# Altium integrated library TI Power Management Supervisor and Reset IC.IntLib: 819 symbols (part 19 of 30)
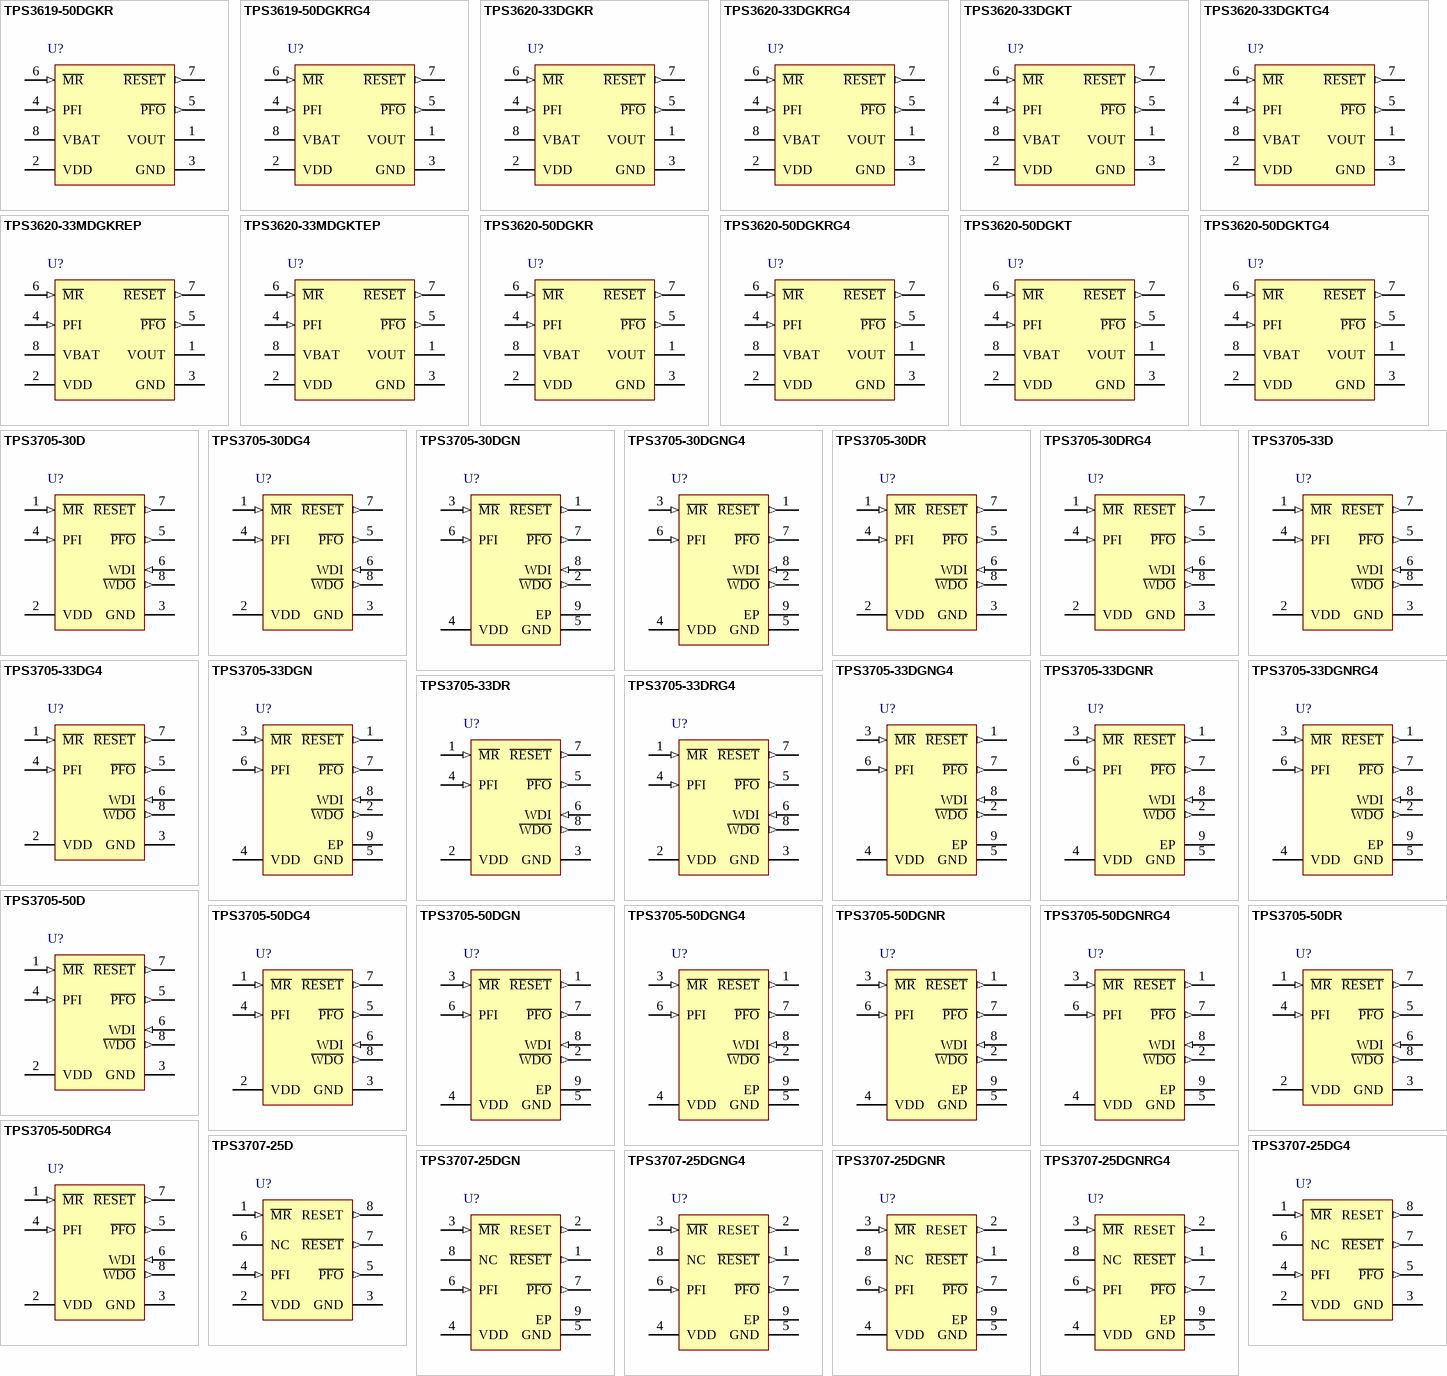
[diagram p39: symbols TPS3619-50DGKR to TPS3707-25DGNRG4]

## TPS3620-33DGKRG4
designator U?
3.3 V Battery-Backup Supervisor for RAM Retention, 1 Supply Monitored, -40 to 85 degC, 8-pin VSSOP (DGK), Green (RoHS & no Sb/Br); Manufacturer: Texas Instruments; PartNumber: TPS3620-33DGKRG4; # of supplies monitored: 1; Iq(Typ)(uA): 15; Output Driver Type / Reset Output: Active-low, Push-pull; Rating: Catalog; Reset Threshold Accuracy(%): 2; SubFamily: Supervisor and Reset IC; Threshold Voltage 1 (typ)(Typ)(V): 2.93; Threshold Voltage 2 (typ)(Typ)(V): Adjustable; Time Delay(ms): 100; VCC(Max)(V): 5.5; VCC(Min)(V): 1.65; DatasheetVersion: SLVS387H; PackageVersion: revE, May-2006; PackageReference: DGK8; PackageDescription: 8-Pin Thin Small Outline Package 3 x 3 mm Body ,0.65 mm Pitch; Supplier 1: Digi-Key; Supplier Part Number 1: TPS3620-33DGKRG4-ND; Supplier 2: Newark; Supplier Part Number 2: 58K6921; Supplier 3: Mouser; Supplier Part Number 3: 595-TPS3620-33DGKRG4; Mounting Technology: Surface Mount; Code_JEDEC: MO-187-AA; ComponentLink1Description: Datasheet; ComponentLink1URL: http://www.ti.com/general/docs/lit/getliterature.tsp?genericPartNumber=TPS3620-33&fileType=pdf
footprint DGK8_N (TSOP, 8-Leads, Body 3x3mm, Pitch 0.65mm, IPC Medium Density)
footprint DGK8_L (TSOP, 8-Leads, Body 3x3mm, Pitch 0.65mm, IPC High Density)
footprint DGK8_M (TSOP, 8-Leads, Body 3x3mm, Pitch 0.65mm, IPC Low Density)
pins: 1 VOUT (power) "Supply output", 2 VDD (power) "Input supply voltage", 3 GND (power) "Ground", 4 PFI (in) "Power-fail comparator input", 5 ~{PFO} (out) "Power-fail comparator output", 6 ~{MR} (in) "Manual reset input", 7 ~{RESET} (out) "Active-low reset output", 8 VBAT (power) "Backup-battery input"

## TPS3620-33DGKT
designator U?
3.3 V Battery-Backup Supervisor for RAM Retention, 1 Supply Monitored, -40 to 85 degC, 8-pin VSSOP (DGK), Green (RoHS & no Sb/Br); Manufacturer: Texas Instruments; PartNumber: TPS3620-33DGKT; # of supplies monitored: 1; Iq(Typ)(uA): 15; Output Driver Type / Reset Output: Active-low, Push-pull; Rating: Catalog; Reset Threshold Accuracy(%): 2; SubFamily: Supervisor and Reset IC; Threshold Voltage 1 (typ)(Typ)(V): 2.93; Threshold Voltage 2 (typ)(Typ)(V): Adjustable; Time Delay(ms): 100; VCC(Max)(V): 5.5; VCC(Min)(V): 1.65; DatasheetVersion: SLVS387H; PackageVersion: revE, May-2006; PackageReference: DGK8; PackageDescription: 8-Pin Thin Small Outline Package 3 x 3 mm Body ,0.65 mm Pitch; Supplier 1: Digi-Key; Supplier Part Number 1: 296-26939-2-ND; Supplier 2: Digi-Key; Supplier Part Number 2: 296-26939-1-ND; Supplier 3: Digi-Key; Supplier Part Number 3: 296-26939-6-ND; Supplier 4: Newark; Supplier Part Number 4: 65J6891; Supplier 5: Mouser; Supplier Part Number 5: 595-TPS3620-33DGKT; Mounting Technology: Surface Mount; Code_JEDEC: MO-187-AA; ComponentLink1Description: Datasheet; ComponentLink1URL: http://www.ti.com/general/docs/lit/getliterature.tsp?genericPartNumber=TPS3620-33&fileType=pdf
footprint DGK8_N (TSOP, 8-Leads, Body 3x3mm, Pitch 0.65mm, IPC Medium Density)
footprint DGK8_L (TSOP, 8-Leads, Body 3x3mm, Pitch 0.65mm, IPC High Density)
footprint DGK8_M (TSOP, 8-Leads, Body 3x3mm, Pitch 0.65mm, IPC Low Density)
pins: 1 VOUT (power) "Supply output", 2 VDD (power) "Input supply voltage", 3 GND (power) "Ground", 4 PFI (in) "Power-fail comparator input", 5 ~{PFO} (out) "Power-fail comparator output", 6 ~{MR} (in) "Manual reset input", 7 ~{RESET} (out) "Active-low reset output", 8 VBAT (power) "Backup-battery input"

## TPS3620-33DGKTG4
designator U?
3.3 V Battery-Backup Supervisor for RAM Retention, 1 Supply Monitored, -40 to 85 degC, 8-pin VSSOP (DGK), Green (RoHS & no Sb/Br); Manufacturer: Texas Instruments; PartNumber: TPS3620-33DGKTG4; # of supplies monitored: 1; Iq(Typ)(uA): 15; Output Driver Type / Reset Output: Active-low, Push-pull; Rating: Catalog; Reset Threshold Accuracy(%): 2; SubFamily: Supervisor and Reset IC; Threshold Voltage 1 (typ)(Typ)(V): 2.93; Threshold Voltage 2 (typ)(Typ)(V): Adjustable; Time Delay(ms): 100; VCC(Max)(V): 5.5; VCC(Min)(V): 1.65; DatasheetVersion: SLVS387H; PackageVersion: revE, May-2006; PackageReference: DGK8; PackageDescription: 8-Pin Thin Small Outline Package 3 x 3 mm Body ,0.65 mm Pitch; Supplier 1: Digi-Key; Supplier Part Number 1: TPS3620-33DGKTG4-ND; Supplier 2: Newark; Supplier Part Number 2: 54K1640; Supplier 3: Mouser; Supplier Part Number 3: 595-TPS3620-33DGKTG4; Mounting Technology: Surface Mount; Code_JEDEC: MO-187-AA; ComponentLink1Description: Datasheet; ComponentLink1URL: http://www.ti.com/general/docs/lit/getliterature.tsp?genericPartNumber=TPS3620-33&fileType=pdf
footprint DGK8_N (TSOP, 8-Leads, Body 3x3mm, Pitch 0.65mm, IPC Medium Density)
footprint DGK8_L (TSOP, 8-Leads, Body 3x3mm, Pitch 0.65mm, IPC High Density)
footprint DGK8_M (TSOP, 8-Leads, Body 3x3mm, Pitch 0.65mm, IPC Low Density)
pins: 1 VOUT (power) "Supply output", 2 VDD (power) "Input supply voltage", 3 GND (power) "Ground", 4 PFI (in) "Power-fail comparator input", 5 ~{PFO} (out) "Power-fail comparator output", 6 ~{MR} (in) "Manual reset input", 7 ~{RESET} (out) "Active-low reset output", 8 VBAT (power) "Backup-battery input"

## TPS3620-33MDGKREP
designator U?
Enhanced Product Backup-Battery Supervisor for Ram Retention, 1 Supply Monitored, -55 to 125 degC, 8-pin MSOP (DGK), Green (RoHS & no Sb/Br); Manufacturer: Texas Instruments; PartNumber: TPS3620-33MDGKREP; # of supplies monitored: 1; Iq(Typ)(uA): 15; Output Driver Type / Reset Output: Active-low, Push-pull; Rating: HiRel Enhanced Product; Reset Threshold Accuracy(%): 2; SubFamily: Supervisor and Reset IC; Threshold Voltage 1 (typ)(Typ)(V): 2.93; Threshold Voltage 2 (typ)(Typ)(V): Adjustable; Time Delay(ms): 100; VCC(Max)(V): 5.5; VCC(Min)(V): 1.65; DatasheetVersion: SGLS350C; PackageVersion: revE, May-2006; PackageReference: DGK8; PackageDescription: 8-Pin Thin Small Outline Package 3 x 3 mm Body ,0.65 mm Pitch; Supplier 1: Digi-Key; Supplier Part Number 1: 296-22437-2-ND; Supplier 2: Digi-Key; Supplier Part Number 2: 296-22437-1-ND; Supplier 3: Digi-Key; Supplier Part Number 3: 296-22437-6-ND; Supplier 4: Newark; Supplier Part Number 4: 46M3176; Supplier 5: Mouser; Supplier Part Number 5: 595-PS3620-33MDGKREP; Mounting Technology: Surface Mount; Code_JEDEC: MO-187-AA; ComponentLink1Description: Datasheet; ComponentLink1URL: http://www.ti.com/general/docs/lit/getliterature.tsp?genericPartNumber=TPS3620-33-EP&fileType=pdf
footprint DGK8_N (TSOP, 8-Leads, Body 3x3mm, Pitch 0.65mm, IPC Medium Density)
footprint DGK8_L (TSOP, 8-Leads, Body 3x3mm, Pitch 0.65mm, IPC High Density)
footprint DGK8_M (TSOP, 8-Leads, Body 3x3mm, Pitch 0.65mm, IPC Low Density)
pins: 1 VOUT (power) "Supply output voltage", 2 VDD (power) "Supply input voltage", 3 GND (power) "Ground", 4 PFI (in) "Power-fail comparator input", 5 ~{PFO} (out) "Power-fail comparator output", 6 ~{MR} (in) "Manual reset", 7 ~{RESET} (out) "Active-low reset", 8 VBAT (power) "Backup battery"

## TPS3620-33MDGKTEP
designator U?
Enhanced Product Backup-Battery Supervisor for Ram Retention, 1 Supply Monitored, -55 to 125 degC, 8-pin MSOP (DGK), Green (RoHS & no Sb/Br); Manufacturer: Texas Instruments; PartNumber: TPS3620-33MDGKTEP; # of supplies monitored: 1; Iq(Typ)(uA): 15; Output Driver Type / Reset Output: Active-low, Push-pull; Rating: HiRel Enhanced Product; Reset Threshold Accuracy(%): 2; SubFamily: Supervisor and Reset IC; Threshold Voltage 1 (typ)(Typ)(V): 2.93; Threshold Voltage 2 (typ)(Typ)(V): Adjustable; Time Delay(ms): 100; VCC(Max)(V): 5.5; VCC(Min)(V): 1.65; DatasheetVersion: SGLS350C; PackageVersion: revE, May-2006; PackageReference: DGK8; PackageDescription: 8-Pin Thin Small Outline Package 3 x 3 mm Body ,0.65 mm Pitch; Supplier 1: Digi-Key; Supplier Part Number 1: TPS3620-33MDGKTEP-ND; Supplier 2: Mouser; Supplier Part Number 2: 595-TPS362033MDGKTEP; Mounting Technology: Surface Mount; Code_JEDEC: MO-187-AA; ComponentLink1Description: Datasheet; ComponentLink1URL: http://www.ti.com/general/docs/lit/getliterature.tsp?genericPartNumber=TPS3620-33-EP&fileType=pdf
footprint DGK8_N (TSOP, 8-Leads, Body 3x3mm, Pitch 0.65mm, IPC Medium Density)
footprint DGK8_L (TSOP, 8-Leads, Body 3x3mm, Pitch 0.65mm, IPC High Density)
footprint DGK8_M (TSOP, 8-Leads, Body 3x3mm, Pitch 0.65mm, IPC Low Density)
pins: 1 VOUT (power) "Supply output voltage", 2 VDD (power) "Supply input voltage", 3 GND (power) "Ground", 4 PFI (in) "Power-fail comparator input", 5 ~{PFO} (out) "Power-fail comparator output", 6 ~{MR} (in) "Manual reset", 7 ~{RESET} (out) "Active-low reset", 8 VBAT (power) "Backup battery"

## TPS3620-50DGKR
designator U?
5 V Battery-Backup Supervisor for RAM Retention, 1 Supply Monitored, -40 to 85 degC, 8-pin VSSOP (DGK), Green (RoHS & no Sb/Br); Manufacturer: Texas Instruments; PartNumber: TPS3620-50DGKR; # of supplies monitored: 1; Iq(Typ)(uA): 15; Output Driver Type / Reset Output: Active-low, Push-pull; Rating: Catalog; Reset Threshold Accuracy(%): 2; SubFamily: Supervisor and Reset IC; Threshold Voltage 1 (typ)(Typ)(V): 4.55; Threshold Voltage 2 (typ)(Typ)(V): Adjustable; Time Delay(ms): 100; VCC(Max)(V): 5.5; VCC(Min)(V): 1.65; DatasheetVersion: SLVS387H; PackageVersion: revE, May-2006; PackageReference: DGK8; PackageDescription: 8-Pin Thin Small Outline Package 3 x 3 mm Body ,0.65 mm Pitch; Supplier 1: Digi-Key; Supplier Part Number 1: 296-17575-2-ND; Supplier 2: Digi-Key; Supplier Part Number 2: 296-17575-1-ND; Supplier 3: Digi-Key; Supplier Part Number 3: 296-17575-6-ND; Supplier 4: Newark; Supplier Part Number 4: 71J8103; Supplier 5: Mouser; Supplier Part Number 5: 595-TPS3620-50DGKR; Mounting Technology: Surface Mount; Code_JEDEC: MO-187-AA; ComponentLink1Description: Datasheet; ComponentLink1URL: http://www.ti.com/general/docs/lit/getliterature.tsp?genericPartNumber=TPS3620-50&fileType=pdf
footprint DGK8_N (TSOP, 8-Leads, Body 3x3mm, Pitch 0.65mm, IPC Medium Density)
footprint DGK8_L (TSOP, 8-Leads, Body 3x3mm, Pitch 0.65mm, IPC High Density)
footprint DGK8_M (TSOP, 8-Leads, Body 3x3mm, Pitch 0.65mm, IPC Low Density)
pins: 1 VOUT (power) "Supply output", 2 VDD (power) "Input supply voltage", 3 GND (power) "Ground", 4 PFI (in) "Power-fail comparator input", 5 ~{PFO} (out) "Power-fail comparator output", 6 ~{MR} (in) "Manual reset input", 7 ~{RESET} (out) "Active-low reset output", 8 VBAT (power) "Backup-battery input"

## TPS3620-50DGKRG4
designator U?
5 V Battery-Backup Supervisor for RAM Retention, 1 Supply Monitored, -40 to 85 degC, 8-pin VSSOP (DGK), Green (RoHS & no Sb/Br); Manufacturer: Texas Instruments; PartNumber: TPS3620-50DGKRG4; # of supplies monitored: 1; Iq(Typ)(uA): 15; Output Driver Type / Reset Output: Active-low, Push-pull; Rating: Catalog; Reset Threshold Accuracy(%): 2; SubFamily: Supervisor and Reset IC; Threshold Voltage 1 (typ)(Typ)(V): 4.55; Threshold Voltage 2 (typ)(Typ)(V): Adjustable; Time Delay(ms): 100; VCC(Max)(V): 5.5; VCC(Min)(V): 1.65; DatasheetVersion: SLVS387H; PackageVersion: revE, May-2006; PackageReference: DGK8; PackageDescription: 8-Pin Thin Small Outline Package 3 x 3 mm Body ,0.65 mm Pitch; Supplier 1: Digi-Key; Supplier Part Number 1: TPS3620-50DGKRG4-ND; Supplier 2: Newark; Supplier Part Number 2: 54K1641; Supplier 3: Mouser; Supplier Part Number 3: 595-TPS3620-50DGKRG4; Mounting Technology: Surface Mount; Code_JEDEC: MO-187-AA; ComponentLink1Description: Datasheet; ComponentLink1URL: http://www.ti.com/general/docs/lit/getliterature.tsp?genericPartNumber=TPS3620-50&fileType=pdf
footprint DGK8_N (TSOP, 8-Leads, Body 3x3mm, Pitch 0.65mm, IPC Medium Density)
footprint DGK8_L (TSOP, 8-Leads, Body 3x3mm, Pitch 0.65mm, IPC High Density)
footprint DGK8_M (TSOP, 8-Leads, Body 3x3mm, Pitch 0.65mm, IPC Low Density)
pins: 1 VOUT (power) "Supply output", 2 VDD (power) "Input supply voltage", 3 GND (power) "Ground", 4 PFI (in) "Power-fail comparator input", 5 ~{PFO} (out) "Power-fail comparator output", 6 ~{MR} (in) "Manual reset input", 7 ~{RESET} (out) "Active-low reset output", 8 VBAT (power) "Backup-battery input"

## TPS3620-50DGKT
designator U?
5 V Battery-Backup Supervisor for RAM Retention, 1 Supply Monitored, -40 to 85 degC, 8-pin VSSOP (DGK), Green (RoHS & no Sb/Br); Manufacturer: Texas Instruments; PartNumber: TPS3620-50DGKT; # of supplies monitored: 1; Iq(Typ)(uA): 15; Output Driver Type / Reset Output: Active-low, Push-pull; Rating: Catalog; Reset Threshold Accuracy(%): 2; SubFamily: Supervisor and Reset IC; Threshold Voltage 1 (typ)(Typ)(V): 4.55; Threshold Voltage 2 (typ)(Typ)(V): Adjustable; Time Delay(ms): 100; VCC(Max)(V): 5.5; VCC(Min)(V): 1.65; DatasheetVersion: SLVS387H; PackageVersion: revE, May-2006; PackageReference: DGK8; PackageDescription: 8-Pin Thin Small Outline Package 3 x 3 mm Body ,0.65 mm Pitch; Supplier 1: Digi-Key; Supplier Part Number 1: TPS3620-50DGKT-ND; Supplier 2: Newark; Supplier Part Number 2: 71J8104; Supplier 3: Mouser; Supplier Part Number 3: 595-TPS3620-50DGKT; Mounting Technology: Surface Mount; Code_JEDEC: MO-187-AA; ComponentLink1Description: Datasheet; ComponentLink1URL: http://www.ti.com/general/docs/lit/getliterature.tsp?genericPartNumber=TPS3620-50&fileType=pdf
footprint DGK8_N (TSOP, 8-Leads, Body 3x3mm, Pitch 0.65mm, IPC Medium Density)
footprint DGK8_L (TSOP, 8-Leads, Body 3x3mm, Pitch 0.65mm, IPC High Density)
footprint DGK8_M (TSOP, 8-Leads, Body 3x3mm, Pitch 0.65mm, IPC Low Density)
pins: 1 VOUT (power) "Supply output", 2 VDD (power) "Input supply voltage", 3 GND (power) "Ground", 4 PFI (in) "Power-fail comparator input", 5 ~{PFO} (out) "Power-fail comparator output", 6 ~{MR} (in) "Manual reset input", 7 ~{RESET} (out) "Active-low reset output", 8 VBAT (power) "Backup-battery input"

## TPS3620-50DGKTG4
designator U?
5 V Battery-Backup Supervisor for RAM Retention, 1 Supply Monitored, -40 to 85 degC, 8-pin VSSOP (DGK), Green (RoHS & no Sb/Br); Manufacturer: Texas Instruments; PartNumber: TPS3620-50DGKTG4; # of supplies monitored: 1; Iq(Typ)(uA): 15; Output Driver Type / Reset Output: Active-low, Push-pull; Rating: Catalog; Reset Threshold Accuracy(%): 2; SubFamily: Supervisor and Reset IC; Threshold Voltage 1 (typ)(Typ)(V): 4.55; Threshold Voltage 2 (typ)(Typ)(V): Adjustable; Time Delay(ms): 100; VCC(Max)(V): 5.5; VCC(Min)(V): 1.65; DatasheetVersion: SLVS387H; PackageVersion: revE, May-2006; PackageReference: DGK8; PackageDescription: 8-Pin Thin Small Outline Package 3 x 3 mm Body ,0.65 mm Pitch; Supplier 1: Digi-Key; Supplier Part Number 1: TPS3620-50DGKTG4-ND; Supplier 2: Newark; Supplier Part Number 2: 58K6922; Supplier 3: Mouser; Supplier Part Number 3: 595-TPS3620-50DGKTG4; Mounting Technology: Surface Mount; Code_JEDEC: MO-187-AA; ComponentLink1Description: Datasheet; ComponentLink1URL: http://www.ti.com/general/docs/lit/getliterature.tsp?genericPartNumber=TPS3620-50&fileType=pdf
footprint DGK8_N (TSOP, 8-Leads, Body 3x3mm, Pitch 0.65mm, IPC Medium Density)
footprint DGK8_L (TSOP, 8-Leads, Body 3x3mm, Pitch 0.65mm, IPC High Density)
footprint DGK8_M (TSOP, 8-Leads, Body 3x3mm, Pitch 0.65mm, IPC Low Density)
pins: 1 VOUT (power) "Supply output", 2 VDD (power) "Input supply voltage", 3 GND (power) "Ground", 4 PFI (in) "Power-fail comparator input", 5 ~{PFO} (out) "Power-fail comparator output", 6 ~{MR} (in) "Manual reset input", 7 ~{RESET} (out) "Active-low reset output", 8 VBAT (power) "Backup-battery input"

## TPS3705-30D
designator U?
Processor Supervisory Circuit with Power-Fail, 2 Supply Monitored, -40 to 85 degC, 8-pin SOIC (D), Green (RoHS & no Sb/Br); Manufacturer: Texas Instruments; PartNumber: TPS3705-30D; # of supplies monitored: 2; Iq(Typ)(uA): 30; Output Driver Type / Reset Output: Active-low, Push-pull; Rating: Catalog; Reset Threshold Accuracy(%): 2.1; SubFamily: Supervisor and Reset IC; Threshold Voltage 1 (typ)(Typ)(V): 2.63; Threshold Voltage 2 (typ)(Typ)(V): Adjustable; Time Delay(ms): 200; VCC(Max)(V): 3; Watchdog Timer WDI(sec): 1.6; DatasheetVersion: SLVS184C; PackageVersion: revM, Jun-2011; PackageReference: D8; PackageDescription: 8-Pin Plastic Small Outline Integrated Circuit, 4.9 x 3.9 mm, Pitch 1.27 mm Pitch; Supplier 1: Digi-Key; Supplier Part Number 1: 296-2622-5-ND; Supplier 2: Newark; Supplier Part Number 2: 35K1319; Supplier 3: Mouser; Supplier Part Number 3: 595-TPS3705-30D; VCC(Min)(V): 2; Mounting Technology: Surface Mount; Code_JEDEC: MS-012AA; ComponentLink1Description: Datasheet; ComponentLink1URL: http://www.ti.com/general/docs/lit/getliterature.tsp?genericPartNumber=TPS3705-30&fileType=pdf
footprint D8_N (SOIC, 8-Leads, Body 4.9x3.9mm, Pitch 1.27mm, IPC Medium Density)
footprint D8_L (SOIC, 8-Leads, Body 4.9x3.9mm, Pitch 1.27mm, IPC High Density)
footprint D8_M (SOIC, 8-Leads, Body 4.9x3.9mm, Pitch 1.27mm, IPC Low Density)
pins: 1 ~{MR} (in) "Manual reset", 2 VDD (power) "Supply voltage", 3 GND (power) "Ground", 4 PFI (in) "Power-fail comparator input", 5 ~{PFO} (out) "Power-fail comparator output", 6 WDI (in) "Watchdog timer input", 7 ~{RESET} (out) "Active-low reset output", 8 ~{WDO} (out) "Watchdog timer output"

## TPS3705-30DG4
designator U?
Processor Supervisory Circuit with Power-Fail, 2 Supply Monitored, -40 to 85 degC, 8-pin SOIC (D), Green (RoHS & no Sb/Br); Manufacturer: Texas Instruments; PartNumber: TPS3705-30DG4; # of supplies monitored: 2; Iq(Typ)(uA): 30; Output Driver Type / Reset Output: Active-low, Push-pull; Rating: Catalog; Reset Threshold Accuracy(%): 2.1; SubFamily: Supervisor and Reset IC; Threshold Voltage 1 (typ)(Typ)(V): 2.63; Threshold Voltage 2 (typ)(Typ)(V): Adjustable; Time Delay(ms): 200; VCC(Max)(V): 3; Watchdog Timer WDI(sec): 1.6; DatasheetVersion: SLVS184C; PackageVersion: revM, Jun-2011; PackageReference: D8; PackageDescription: 8-Pin Plastic Small Outline Integrated Circuit, 4.9 x 3.9 mm, Pitch 1.27 mm Pitch; Supplier 1: Digi-Key; Supplier Part Number 1: TPS3705-30DG4-ND; Supplier 2: Newark; Supplier Part Number 2: 41M5864; Supplier 3: Mouser; Supplier Part Number 3: 595-TPS3705-30DG4; VCC(Min)(V): 2; Mounting Technology: Surface Mount; Code_JEDEC: MS-012AA; ComponentLink1Description: Datasheet; ComponentLink1URL: http://www.ti.com/general/docs/lit/getliterature.tsp?genericPartNumber=TPS3705-30&fileType=pdf
footprint D8_N (SOIC, 8-Leads, Body 4.9x3.9mm, Pitch 1.27mm, IPC Medium Density)
footprint D8_L (SOIC, 8-Leads, Body 4.9x3.9mm, Pitch 1.27mm, IPC High Density)
footprint D8_M (SOIC, 8-Leads, Body 4.9x3.9mm, Pitch 1.27mm, IPC Low Density)
pins: 1 ~{MR} (in) "Manual reset", 2 VDD (power) "Supply voltage", 3 GND (power) "Ground", 4 PFI (in) "Power-fail comparator input", 5 ~{PFO} (out) "Power-fail comparator output", 6 WDI (in) "Watchdog timer input", 7 ~{RESET} (out) "Active-low reset output", 8 ~{WDO} (out) "Watchdog timer output"

## TPS3705-30DGN
designator U?
Processor Supervisory Circuit with Power-Fail, 2 Supply Monitored, -40 to 85 degC, 8-pin MSOP-PowerPAD (DGN), Green (RoHS & no Sb/Br); Manufacturer: Texas Instruments; PartNumber: TPS3705-30DGN; # of supplies monitored: 2; Iq(Typ)(uA): 30; Output Driver Type / Reset Output: Active-low, Push-pull; Rating: Catalog; Reset Threshold Accuracy(%): 2.1; SubFamily: Supervisor and Reset IC; Threshold Voltage 1 (typ)(Typ)(V): 2.63; Threshold Voltage 2 (typ)(Typ)(V): Adjustable; Time Delay(ms): 200; VCC(Max)(V): 3; Watchdog Timer WDI(sec): 1.6; DatasheetVersion: SLVS184C; PackageVersion: revF, May-2011; PackageReference: DGN8-1760X1425TP; PackageDescription: 8-Pin PowerPAD Plastic Small Outline Package 3 x 3 mm Body ,0.65 mm Pitch, Exposed Pad; Supplier 1: Digi-Key; Supplier Part Number 1: 296-3316-5-ND; Supplier 2: Newark; Supplier Part Number 2: 77C0363; Supplier 3: Mouser; Supplier Part Number 3: 595-TPS3705-30DGN; VCC(Min)(V): 2; Mounting Technology: Surface Mount; Code_JEDEC: MO-187-AA-T; ComponentLink1Description: Datasheet; ComponentLink1URL: http://www.ti.com/general/docs/lit/getliterature.tsp?genericPartNumber=TPS3705-30&fileType=pdf
footprint DGN8-1760X1425TP_N (TSOP, 8-Leads, Body 3x3mm, Pitch 0.65mm, Thermal Pad 1.89x1.57mm, IPC Medium Density)
footprint DGN8-1760X1425TP_L (TSOP, 8-Leads, Body 3x3mm, Pitch 0.65mm, Thermal Pad 1.89x1.57mm, IPC High Density)
footprint DGN8-1760X1425TP_M (TSOP, 8-Leads, Body 3x3mm, Pitch 0.65mm, Thermal Pad 1.89x1.57mm, IPC Low Density)
pins: 1 ~{RESET} (out) "Active-low reset output", 2 ~{WDO} (out) "Watchdog timer output", 3 ~{MR} (in) "Manual reset", 4 VDD (power) "Supply voltage", 5 GND (power) "Ground", 6 PFI (in) "Power-fail comparator input", 7 ~{PFO} (out) "Power-fail comparator output", 8 WDI (in) "Watchdog timer input", 9 EP "Exposed Pad"

## TPS3705-30DGNG4
designator U?
Processor Supervisory Circuit with Power-Fail, 2 Supply Monitored, -40 to 85 degC, 8-pin MSOP-PowerPAD (DGN), Green (RoHS & no Sb/Br); Manufacturer: Texas Instruments; PartNumber: TPS3705-30DGNG4; # of supplies monitored: 2; Iq(Typ)(uA): 30; Output Driver Type / Reset Output: Active-low, Push-pull; Rating: Catalog; Reset Threshold Accuracy(%): 2.1; SubFamily: Supervisor and Reset IC; Threshold Voltage 1 (typ)(Typ)(V): 2.63; Threshold Voltage 2 (typ)(Typ)(V): Adjustable; Time Delay(ms): 200; VCC(Max)(V): 3; Watchdog Timer WDI(sec): 1.6; DatasheetVersion: SLVS184C; PackageVersion: revF, May-2011; PackageReference: DGN8-1760X1425TP; PackageDescription: 8-Pin PowerPAD Plastic Small Outline Package 3 x 3 mm Body ,0.65 mm Pitch, Exposed Pad; Supplier 1: Digi-Key; Supplier Part Number 1: TPS3705-30DGNG4-ND; Supplier 2: Newark; Supplier Part Number 2: 73K9595; Supplier 3: Mouser; Supplier Part Number 3: 595-TPS3705-30DGNG4; VCC(Min)(V): 2; Mounting Technology: Surface Mount; Code_JEDEC: MO-187-AA-T; ComponentLink1Description: Datasheet; ComponentLink1URL: http://www.ti.com/general/docs/lit/getliterature.tsp?genericPartNumber=TPS3705-30&fileType=pdf
footprint DGN8-1760X1425TP_N (TSOP, 8-Leads, Body 3x3mm, Pitch 0.65mm, Thermal Pad 1.89x1.57mm, IPC Medium Density)
footprint DGN8-1760X1425TP_L (TSOP, 8-Leads, Body 3x3mm, Pitch 0.65mm, Thermal Pad 1.89x1.57mm, IPC High Density)
footprint DGN8-1760X1425TP_M (TSOP, 8-Leads, Body 3x3mm, Pitch 0.65mm, Thermal Pad 1.89x1.57mm, IPC Low Density)
pins: 1 ~{RESET} (out) "Active-low reset output", 2 ~{WDO} (out) "Watchdog timer output", 3 ~{MR} (in) "Manual reset", 4 VDD (power) "Supply voltage", 5 GND (power) "Ground", 6 PFI (in) "Power-fail comparator input", 7 ~{PFO} (out) "Power-fail comparator output", 8 WDI (in) "Watchdog timer input", 9 EP "Exposed Pad"

## TPS3705-30DR
designator U?
Processor Supervisory Circuit with Power-Fail, 2 Supply Monitored, -40 to 85 degC, 8-pin SOIC (D), Green (RoHS & no Sb/Br); Manufacturer: Texas Instruments; PartNumber: TPS3705-30DR; # of supplies monitored: 2; Iq(Typ)(uA): 30; Output Driver Type / Reset Output: Active-low, Push-pull; Rating: Catalog; Reset Threshold Accuracy(%): 2.1; SubFamily: Supervisor and Reset IC; Threshold Voltage 1 (typ)(Typ)(V): 2.63; Threshold Voltage 2 (typ)(Typ)(V): Adjustable; Time Delay(ms): 200; VCC(Max)(V): 3; Watchdog Timer WDI(sec): 1.6; DatasheetVersion: SLVS184C; PackageVersion: revM, Jun-2011; PackageReference: D8; PackageDescription: 8-Pin Plastic Small Outline Integrated Circuit, 4.9 x 3.9 mm, Pitch 1.27 mm Pitch; Supplier 1: Digi-Key; Supplier Part Number 1: 296-29076-2-ND; Supplier 2: Digi-Key; Supplier Part Number 2: 296-29076-1-ND; Supplier 3: Digi-Key; Supplier Part Number 3: 296-29076-6-ND; Supplier 4: Newark; Supplier Part Number 4: 77C0364; Supplier 5: Mouser; Supplier Part Number 5: 595-TPS3705-30DR; VCC(Min)(V): 2; Mounting Technology: Surface Mount; Code_JEDEC: MS-012AA; ComponentLink1Description: Datasheet; ComponentLink1URL: http://www.ti.com/general/docs/lit/getliterature.tsp?genericPartNumber=TPS3705-30&fileType=pdf
footprint D8_N (SOIC, 8-Leads, Body 4.9x3.9mm, Pitch 1.27mm, IPC Medium Density)
footprint D8_L (SOIC, 8-Leads, Body 4.9x3.9mm, Pitch 1.27mm, IPC High Density)
footprint D8_M (SOIC, 8-Leads, Body 4.9x3.9mm, Pitch 1.27mm, IPC Low Density)
pins: 1 ~{MR} (in) "Manual reset", 2 VDD (power) "Supply voltage", 3 GND (power) "Ground", 4 PFI (in) "Power-fail comparator input", 5 ~{PFO} (out) "Power-fail comparator output", 6 WDI (in) "Watchdog timer input", 7 ~{RESET} (out) "Active-low reset output", 8 ~{WDO} (out) "Watchdog timer output"

## TPS3705-30DRG4
designator U?
Processor Supervisory Circuit with Power-Fail, 2 Supply Monitored, -40 to 85 degC, 8-pin SOIC (D), Green (RoHS & no Sb/Br); Manufacturer: Texas Instruments; PartNumber: TPS3705-30DRG4; # of supplies monitored: 2; Iq(Typ)(uA): 30; Output Driver Type / Reset Output: Active-low, Push-pull; Rating: Catalog; Reset Threshold Accuracy(%): 2.1; SubFamily: Supervisor and Reset IC; Threshold Voltage 1 (typ)(Typ)(V): 2.63; Threshold Voltage 2 (typ)(Typ)(V): Adjustable; Time Delay(ms): 200; VCC(Max)(V): 3; Watchdog Timer WDI(sec): 1.6; DatasheetVersion: SLVS184C; PackageVersion: revM, Jun-2011; PackageReference: D8; PackageDescription: 8-Pin Plastic Small Outline Integrated Circuit, 4.9 x 3.9 mm, Pitch 1.27 mm Pitch; Supplier 1: Digi-Key; Supplier Part Number 1: TPS3705-30DRG4-ND; Supplier 2: Newark; Supplier Part Number 2: 58K6923; Supplier 3: Mouser; Supplier Part Number 3: 595-TPS3705-30DRG4; VCC(Min)(V): 2; Mounting Technology: Surface Mount; Code_JEDEC: MS-012AA; ComponentLink1Description: Datasheet; ComponentLink1URL: http://www.ti.com/general/docs/lit/getliterature.tsp?genericPartNumber=TPS3705-30&fileType=pdf
footprint D8_N (SOIC, 8-Leads, Body 4.9x3.9mm, Pitch 1.27mm, IPC Medium Density)
footprint D8_L (SOIC, 8-Leads, Body 4.9x3.9mm, Pitch 1.27mm, IPC High Density)
footprint D8_M (SOIC, 8-Leads, Body 4.9x3.9mm, Pitch 1.27mm, IPC Low Density)
pins: 1 ~{MR} (in) "Manual reset", 2 VDD (power) "Supply voltage", 3 GND (power) "Ground", 4 PFI (in) "Power-fail comparator input", 5 ~{PFO} (out) "Power-fail comparator output", 6 WDI (in) "Watchdog timer input", 7 ~{RESET} (out) "Active-low reset output", 8 ~{WDO} (out) "Watchdog timer output"

## TPS3705-33D
designator U?
Processor Supervisory Circuit with Power-Fail, 2 Supply Monitored, -40 to 85 degC, 8-pin SOIC (D), Green (RoHS & no Sb/Br); Manufacturer: Texas Instruments; PartNumber: TPS3705-33D; # of supplies monitored: 2; Iq(Typ)(uA): 30; Output Driver Type / Reset Output: Active-low, Push-pull; Rating: Catalog; Reset Threshold Accuracy(%): 1.9; SubFamily: Supervisor and Reset IC; Threshold Voltage 1 (typ)(Typ)(V): 2.93; Threshold Voltage 2 (typ)(Typ)(V): Adjustable; Time Delay(ms): 200; VCC(Max)(V): 3.3; Watchdog Timer WDI(sec): 1.6; DatasheetVersion: SLVS184C; PackageVersion: revM, Jun-2011; PackageReference: D8; PackageDescription: 8-Pin Plastic Small Outline Integrated Circuit, 4.9 x 3.9 mm, Pitch 1.27 mm Pitch; Supplier 1: Digi-Key; Supplier Part Number 1: 296-2623-5-ND; Supplier 2: Farnell; Supplier Part Number 2: 4513046; Supplier 3: Newark; Supplier Part Number 3: 19C9040; Supplier 4: Mouser; Supplier Part Number 4: 595-TPS3705-33D; VCC(Min)(V): 2; Mounting Technology: Surface Mount; Code_JEDEC: MS-012AA; ComponentLink1Description: Datasheet; ComponentLink1URL: http://www.ti.com/general/docs/lit/getliterature.tsp?genericPartNumber=TPS3705-33&fileType=pdf
footprint D8_N (SOIC, 8-Leads, Body 4.9x3.9mm, Pitch 1.27mm, IPC Medium Density)
footprint D8_L (SOIC, 8-Leads, Body 4.9x3.9mm, Pitch 1.27mm, IPC High Density)
footprint D8_M (SOIC, 8-Leads, Body 4.9x3.9mm, Pitch 1.27mm, IPC Low Density)
pins: 1 ~{MR} (in) "Manual reset", 2 VDD (power) "Supply voltage", 3 GND (power) "Ground", 4 PFI (in) "Power-fail comparator input", 5 ~{PFO} (out) "Power-fail comparator output", 6 WDI (in) "Watchdog timer input", 7 ~{RESET} (out) "Active-low reset output", 8 ~{WDO} (out) "Watchdog timer output"

## TPS3705-33DG4
designator U?
Processor Supervisory Circuit with Power-Fail, 2 Supply Monitored, -40 to 85 degC, 8-pin SOIC (D), Green (RoHS & no Sb/Br); Manufacturer: Texas Instruments; PartNumber: TPS3705-33DG4; # of supplies monitored: 2; Iq(Typ)(uA): 30; Output Driver Type / Reset Output: Active-low, Push-pull; Rating: Catalog; Reset Threshold Accuracy(%): 1.9; SubFamily: Supervisor and Reset IC; Threshold Voltage 1 (typ)(Typ)(V): 2.93; Threshold Voltage 2 (typ)(Typ)(V): Adjustable; Time Delay(ms): 200; VCC(Max)(V): 3.3; Watchdog Timer WDI(sec): 1.6; DatasheetVersion: SLVS184C; PackageVersion: revM, Jun-2011; PackageReference: D8; PackageDescription: 8-Pin Plastic Small Outline Integrated Circuit, 4.9 x 3.9 mm, Pitch 1.27 mm Pitch; Supplier 1: Digi-Key; Supplier Part Number 1: TPS3705-33DG4-ND; Supplier 2: Newark; Supplier Part Number 2: 66K4521; Supplier 3: Mouser; Supplier Part Number 3: 595-TPS3705-33DG4; VCC(Min)(V): 2; Mounting Technology: Surface Mount; Code_JEDEC: MS-012AA; ComponentLink1Description: Datasheet; ComponentLink1URL: http://www.ti.com/general/docs/lit/getliterature.tsp?genericPartNumber=TPS3705-33&fileType=pdf
footprint D8_N (SOIC, 8-Leads, Body 4.9x3.9mm, Pitch 1.27mm, IPC Medium Density)
footprint D8_L (SOIC, 8-Leads, Body 4.9x3.9mm, Pitch 1.27mm, IPC High Density)
footprint D8_M (SOIC, 8-Leads, Body 4.9x3.9mm, Pitch 1.27mm, IPC Low Density)
pins: 1 ~{MR} (in) "Manual reset", 2 VDD (power) "Supply voltage", 3 GND (power) "Ground", 4 PFI (in) "Power-fail comparator input", 5 ~{PFO} (out) "Power-fail comparator output", 6 WDI (in) "Watchdog timer input", 7 ~{RESET} (out) "Active-low reset output", 8 ~{WDO} (out) "Watchdog timer output"

## TPS3705-33DGN
designator U?
Processor Supervisory Circuit with Power-Fail, 2 Supply Monitored, -40 to 85 degC, 8-pin MSOP-PowerPAD (DGN), Green (RoHS & no Sb/Br); Manufacturer: Texas Instruments; PartNumber: TPS3705-33DGN; # of supplies monitored: 2; Iq(Typ)(uA): 30; Output Driver Type / Reset Output: Active-low, Push-pull; Rating: Catalog; Reset Threshold Accuracy(%): 1.9; SubFamily: Supervisor and Reset IC; Threshold Voltage 1 (typ)(Typ)(V): 2.93; Threshold Voltage 2 (typ)(Typ)(V): Adjustable; Time Delay(ms): 200; VCC(Max)(V): 3.3; Watchdog Timer WDI(sec): 1.6; DatasheetVersion: SLVS184C; PackageVersion: revF, May-2011; PackageReference: DGN8-1760X1425TP; PackageDescription: 8-Pin PowerPAD Plastic Small Outline Package 3 x 3 mm Body ,0.65 mm Pitch, Exposed Pad; Supplier 1: Digi-Key; Supplier Part Number 1: 296-34604-5-ND; Supplier 2: Newark; Supplier Part Number 2: 77C0365; Supplier 3: Mouser; Supplier Part Number 3: 595-TPS3705-33DGN; VCC(Min)(V): 2; Mounting Technology: Surface Mount; Code_JEDEC: MO-187-AA-T; ComponentLink1Description: Datasheet; ComponentLink1URL: http://www.ti.com/general/docs/lit/getliterature.tsp?genericPartNumber=TPS3705-33&fileType=pdf
footprint DGN8-1760X1425TP_N (TSOP, 8-Leads, Body 3x3mm, Pitch 0.65mm, Thermal Pad 1.89x1.57mm, IPC Medium Density)
footprint DGN8-1760X1425TP_L (TSOP, 8-Leads, Body 3x3mm, Pitch 0.65mm, Thermal Pad 1.89x1.57mm, IPC High Density)
footprint DGN8-1760X1425TP_M (TSOP, 8-Leads, Body 3x3mm, Pitch 0.65mm, Thermal Pad 1.89x1.57mm, IPC Low Density)
pins: 1 ~{RESET} (out) "Active-low reset output", 2 ~{WDO} (out) "Watchdog timer output", 3 ~{MR} (in) "Manual reset", 4 VDD (power) "Supply voltage", 5 GND (power) "Ground", 6 PFI (in) "Power-fail comparator input", 7 ~{PFO} (out) "Power-fail comparator output", 8 WDI (in) "Watchdog timer input", 9 EP "the exposed thermal pad"

## TPS3705-33DGNG4
designator U?
Processor Supervisory Circuit with Power-Fail, 2 Supply Monitored, -40 to 85 degC, 8-pin MSOP-PowerPAD (DGN), Green (RoHS & no Sb/Br); Manufacturer: Texas Instruments; PartNumber: TPS3705-33DGNG4; # of supplies monitored: 2; Iq(Typ)(uA): 30; Output Driver Type / Reset Output: Active-low, Push-pull; Rating: Catalog; Reset Threshold Accuracy(%): 1.9; SubFamily: Supervisor and Reset IC; Threshold Voltage 1 (typ)(Typ)(V): 2.93; Threshold Voltage 2 (typ)(Typ)(V): Adjustable; Time Delay(ms): 200; VCC(Max)(V): 3.3; Watchdog Timer WDI(sec): 1.6; DatasheetVersion: SLVS184C; PackageVersion: revF, May-2011; PackageReference: DGN8-1760X1425TP; PackageDescription: 8-Pin PowerPAD Plastic Small Outline Package 3 x 3 mm Body ,0.65 mm Pitch, Exposed Pad; Supplier 1: Digi-Key; Supplier Part Number 1: TPS3705-33DGNG4-ND; Supplier 2: Newark; Supplier Part Number 2: 54K1642; Supplier 3: Mouser; Supplier Part Number 3: 595-TPS3705-33DGNG4; VCC(Min)(V): 2; Mounting Technology: Surface Mount; Code_JEDEC: MO-187-AA-T; ComponentLink1Description: Datasheet; ComponentLink1URL: http://www.ti.com/general/docs/lit/getliterature.tsp?genericPartNumber=TPS3705-33&fileType=pdf
footprint DGN8-1760X1425TP_N (TSOP, 8-Leads, Body 3x3mm, Pitch 0.65mm, Thermal Pad 1.89x1.57mm, IPC Medium Density)
footprint DGN8-1760X1425TP_L (TSOP, 8-Leads, Body 3x3mm, Pitch 0.65mm, Thermal Pad 1.89x1.57mm, IPC High Density)
footprint DGN8-1760X1425TP_M (TSOP, 8-Leads, Body 3x3mm, Pitch 0.65mm, Thermal Pad 1.89x1.57mm, IPC Low Density)
pins: 1 ~{RESET} (out) "Active-low reset output", 2 ~{WDO} (out) "Watchdog timer output", 3 ~{MR} (in) "Manual reset", 4 VDD (power) "Supply voltage", 5 GND (power) "Ground", 6 PFI (in) "Power-fail comparator input", 7 ~{PFO} (out) "Power-fail comparator output", 8 WDI (in) "Watchdog timer input", 9 EP "the exposed thermal pad"

## TPS3705-33DGNR
designator U?
Processor Supervisory Circuit with Power-Fail, 2 Supply Monitored, -40 to 85 degC, 8-pin MSOP-PowerPAD (DGN), Green (RoHS & no Sb/Br); Manufacturer: Texas Instruments; PartNumber: TPS3705-33DGNR; # of supplies monitored: 2; Iq(Typ)(uA): 30; Output Driver Type / Reset Output: Active-low, Push-pull; Rating: Catalog; Reset Threshold Accuracy(%): 1.9; SubFamily: Supervisor and Reset IC; Threshold Voltage 1 (typ)(Typ)(V): 2.93; Threshold Voltage 2 (typ)(Typ)(V): Adjustable; Time Delay(ms): 200; VCC(Max)(V): 3.3; Watchdog Timer WDI(sec): 1.6; DatasheetVersion: SLVS184C; PackageVersion: revF, May-2011; PackageReference: DGN8-1760X1425TP; PackageDescription: 8-Pin PowerPAD Plastic Small Outline Package 3 x 3 mm Body ,0.65 mm Pitch, Exposed Pad; Supplier 1: Digi-Key; Supplier Part Number 1: 296-3319-2-ND; Supplier 2: Digi-Key; Supplier Part Number 2: 296-3319-1-ND; Supplier 3: Digi-Key; Supplier Part Number 3: 296-3319-6-ND; Supplier 4: Newark; Supplier Part Number 4: 77C0366; Supplier 5: Mouser; Supplier Part Number 5: 595-TPS3705-33DGNR; VCC(Min)(V): 2; Mounting Technology: Surface Mount; Code_JEDEC: MO-187-AA-T; ComponentLink1Description: Datasheet; ComponentLink1URL: http://www.ti.com/general/docs/lit/getliterature.tsp?genericPartNumber=TPS3705-33&fileType=pdf
footprint DGN8-1760X1425TP_N (TSOP, 8-Leads, Body 3x3mm, Pitch 0.65mm, Thermal Pad 1.89x1.57mm, IPC Medium Density)
footprint DGN8-1760X1425TP_L (TSOP, 8-Leads, Body 3x3mm, Pitch 0.65mm, Thermal Pad 1.89x1.57mm, IPC High Density)
footprint DGN8-1760X1425TP_M (TSOP, 8-Leads, Body 3x3mm, Pitch 0.65mm, Thermal Pad 1.89x1.57mm, IPC Low Density)
pins: 1 ~{RESET} (out) "Active-low reset output", 2 ~{WDO} (out) "Watchdog timer output", 3 ~{MR} (in) "Manual reset", 4 VDD (power) "Supply voltage", 5 GND (power) "Ground", 6 PFI (in) "Power-fail comparator input", 7 ~{PFO} (out) "Power-fail comparator output", 8 WDI (in) "Watchdog timer input", 9 EP "the exposed thermal pad"

## TPS3705-33DGNRG4
designator U?
Processor Supervisory Circuit with Power-Fail, 2 Supply Monitored, -40 to 85 degC, 8-pin MSOP-PowerPAD (DGN), Green (RoHS & no Sb/Br); Manufacturer: Texas Instruments; PartNumber: TPS3705-33DGNRG4; # of supplies monitored: 2; Iq(Typ)(uA): 30; Output Driver Type / Reset Output: Active-low, Push-pull; Rating: Catalog; Reset Threshold Accuracy(%): 1.9; SubFamily: Supervisor and Reset IC; Threshold Voltage 1 (typ)(Typ)(V): 2.93; Threshold Voltage 2 (typ)(Typ)(V): Adjustable; Time Delay(ms): 200; VCC(Max)(V): 3.3; Watchdog Timer WDI(sec): 1.6; DatasheetVersion: SLVS184C; PackageVersion: revF, May-2011; PackageReference: DGN8-1760X1425TP; PackageDescription: 8-Pin PowerPAD Plastic Small Outline Package 3 x 3 mm Body ,0.65 mm Pitch, Exposed Pad; Supplier 1: Digi-Key; Supplier Part Number 1: TPS3705-33DGNRG4-ND; Supplier 2: Newark; Supplier Part Number 2: 58K6924; Supplier 3: Mouser; Supplier Part Number 3: 595-TPS3705-33DGNRG4; VCC(Min)(V): 2; Mounting Technology: Surface Mount; Code_JEDEC: MO-187-AA-T; ComponentLink1Description: Datasheet; ComponentLink1URL: http://www.ti.com/general/docs/lit/getliterature.tsp?genericPartNumber=TPS3705-33&fileType=pdf
footprint DGN8-1760X1425TP_N (TSOP, 8-Leads, Body 3x3mm, Pitch 0.65mm, Thermal Pad 1.89x1.57mm, IPC Medium Density)
footprint DGN8-1760X1425TP_L (TSOP, 8-Leads, Body 3x3mm, Pitch 0.65mm, Thermal Pad 1.89x1.57mm, IPC High Density)
footprint DGN8-1760X1425TP_M (TSOP, 8-Leads, Body 3x3mm, Pitch 0.65mm, Thermal Pad 1.89x1.57mm, IPC Low Density)
pins: 1 ~{RESET} (out) "Active-low reset output", 2 ~{WDO} (out) "Watchdog timer output", 3 ~{MR} (in) "Manual reset", 4 VDD (power) "Supply voltage", 5 GND (power) "Ground", 6 PFI (in) "Power-fail comparator input", 7 ~{PFO} (out) "Power-fail comparator output", 8 WDI (in) "Watchdog timer input", 9 EP "the exposed thermal pad"

## TPS3705-33DR
designator U?
Processor Supervisory Circuit with Power-Fail, 2 Supply Monitored, -40 to 85 degC, 8-pin SOIC (D), Green (RoHS & no Sb/Br); Manufacturer: Texas Instruments; PartNumber: TPS3705-33DR; # of supplies monitored: 2; Iq(Typ)(uA): 30; Output Driver Type / Reset Output: Active-low, Push-pull; Rating: Catalog; Reset Threshold Accuracy(%): 1.9; SubFamily: Supervisor and Reset IC; Threshold Voltage 1 (typ)(Typ)(V): 2.93; Threshold Voltage 2 (typ)(Typ)(V): Adjustable; Time Delay(ms): 200; VCC(Max)(V): 3.3; Watchdog Timer WDI(sec): 1.6; DatasheetVersion: SLVS184C; PackageVersion: revM, Jun-2011; PackageReference: D8; PackageDescription: 8-Pin Plastic Small Outline Integrated Circuit, 4.9 x 3.9 mm, Pitch 1.27 mm Pitch; Supplier 1: Digi-Key; Supplier Part Number 1: 296-26940-2-ND; Supplier 2: Digi-Key; Supplier Part Number 2: 296-26940-1-ND; Supplier 3: Digi-Key; Supplier Part Number 3: 296-26940-6-ND; Supplier 4: Newark; Supplier Part Number 4: 77C0367; Supplier 5: Mouser; Supplier Part Number 5: 595-TPS3705-33DR; VCC(Min)(V): 2; Mounting Technology: Surface Mount; Code_JEDEC: MS-012AA; ComponentLink1Description: Datasheet; ComponentLink1URL: http://www.ti.com/general/docs/lit/getliterature.tsp?genericPartNumber=TPS3705-33&fileType=pdf
footprint D8_N (SOIC, 8-Leads, Body 4.9x3.9mm, Pitch 1.27mm, IPC Medium Density)
footprint D8_L (SOIC, 8-Leads, Body 4.9x3.9mm, Pitch 1.27mm, IPC High Density)
footprint D8_M (SOIC, 8-Leads, Body 4.9x3.9mm, Pitch 1.27mm, IPC Low Density)
pins: 1 ~{MR} (in) "Manual reset", 2 VDD (power) "Supply voltage", 3 GND (power) "Ground", 4 PFI (in) "Power-fail comparator input", 5 ~{PFO} (out) "Power-fail comparator output", 6 WDI (in) "Watchdog timer input", 7 ~{RESET} (out) "Active-low reset output", 8 ~{WDO} (out) "Watchdog timer output"

## TPS3705-33DRG4
designator U?
Processor Supervisory Circuit with Power-Fail, 2 Supply Monitored, -40 to 85 degC, 8-pin SOIC (D), Green (RoHS & no Sb/Br); Manufacturer: Texas Instruments; PartNumber: TPS3705-33DRG4; # of supplies monitored: 2; Iq(Typ)(uA): 30; Output Driver Type / Reset Output: Active-low, Push-pull; Rating: Catalog; Reset Threshold Accuracy(%): 1.9; SubFamily: Supervisor and Reset IC; Threshold Voltage 1 (typ)(Typ)(V): 2.93; Threshold Voltage 2 (typ)(Typ)(V): Adjustable; Time Delay(ms): 200; VCC(Max)(V): 3.3; Watchdog Timer WDI(sec): 1.6; DatasheetVersion: SLVS184C; PackageVersion: revM, Jun-2011; PackageReference: D8; PackageDescription: 8-Pin Plastic Small Outline Integrated Circuit, 4.9 x 3.9 mm, Pitch 1.27 mm Pitch; Supplier 1: Digi-Key; Supplier Part Number 1: TPS3705-33DRG4-ND; Supplier 2: Newark; Supplier Part Number 2: 28K5724; Supplier 3: Mouser; Supplier Part Number 3: 595-TPS3705-33DRG4; VCC(Min)(V): 2; Mounting Technology: Surface Mount; Code_JEDEC: MS-012AA; ComponentLink1Description: Datasheet; ComponentLink1URL: http://www.ti.com/general/docs/lit/getliterature.tsp?genericPartNumber=TPS3705-33&fileType=pdf
footprint D8_N (SOIC, 8-Leads, Body 4.9x3.9mm, Pitch 1.27mm, IPC Medium Density)
footprint D8_L (SOIC, 8-Leads, Body 4.9x3.9mm, Pitch 1.27mm, IPC High Density)
footprint D8_M (SOIC, 8-Leads, Body 4.9x3.9mm, Pitch 1.27mm, IPC Low Density)
pins: 1 ~{MR} (in) "Manual reset", 2 VDD (power) "Supply voltage", 3 GND (power) "Ground", 4 PFI (in) "Power-fail comparator input", 5 ~{PFO} (out) "Power-fail comparator output", 6 WDI (in) "Watchdog timer input", 7 ~{RESET} (out) "Active-low reset output", 8 ~{WDO} (out) "Watchdog timer output"

## TPS3705-50D
designator U?
Processor Supervisory Circuit with Power-Fail, 2 Supply Monitored, -40 to 85 degC, 8-pin SOIC (D), Green (RoHS & no Sb/Br); Manufacturer: Texas Instruments; PartNumber: TPS3705-50D; # of supplies monitored: 2; Iq(Typ)(uA): 30; Output Driver Type / Reset Output: Active-low, Push-pull; Rating: Catalog; SubFamily: Supervisor and Reset IC; Threshold Voltage 1 (typ)(Typ)(V): 4.55; Threshold Voltage 2 (typ)(Typ)(V): Adjustable; Time Delay(ms): 200; VCC(Max)(V): 5; Watchdog Timer WDI(sec): 1.6; DatasheetVersion: SLVS184C; PackageVersion: revM, Jun-2011; PackageReference: D8; PackageDescription: 8-Pin Plastic Small Outline Integrated Circuit, 4.9 x 3.9 mm, Pitch 1.27 mm Pitch; Supplier 1: Digi-Key; Supplier Part Number 1: 296-2624-5-ND; Supplier 2: Newark; Supplier Part Number 2: 19C9041; Supplier 3: Mouser; Supplier Part Number 3: 595-TPS3705-50D; Reset Threshold Accuracy(%): 2; VCC(Min)(V): 2; Mounting Technology: Surface Mount; Code_JEDEC: MS-012AA; ComponentLink1Description: Datasheet; ComponentLink1URL: http://www.ti.com/general/docs/lit/getliterature.tsp?genericPartNumber=TPS3705-50&fileType=pdf
footprint D8_N (SOIC, 8-Leads, Body 4.9x3.9mm, Pitch 1.27mm, IPC Medium Density)
footprint D8_L (SOIC, 8-Leads, Body 4.9x3.9mm, Pitch 1.27mm, IPC High Density)
footprint D8_M (SOIC, 8-Leads, Body 4.9x3.9mm, Pitch 1.27mm, IPC Low Density)
pins: 1 ~{MR} (in) "Manual reset", 2 VDD (power) "Supply voltage", 3 GND (power) "Ground", 4 PFI (in) "Power-fail comparator input", 5 ~{PFO} (out) "Power-fail comparator output", 6 WDI (in) "Watchdog timer input", 7 ~{RESET} (out) "Active-low reset output", 8 ~{WDO} (out) "Watchdog timer output"

## TPS3705-50DG4
designator U?
Processor Supervisory Circuit with Power-Fail, 2 Supply Monitored, -40 to 85 degC, 8-pin SOIC (D), Green (RoHS & no Sb/Br); Manufacturer: Texas Instruments; PartNumber: TPS3705-50DG4; # of supplies monitored: 2; Iq(Typ)(uA): 30; Output Driver Type / Reset Output: Active-low, Push-pull; Rating: Catalog; SubFamily: Supervisor and Reset IC; Threshold Voltage 1 (typ)(Typ)(V): 4.55; Threshold Voltage 2 (typ)(Typ)(V): Adjustable; Time Delay(ms): 200; VCC(Max)(V): 5; Watchdog Timer WDI(sec): 1.6; DatasheetVersion: SLVS184C; PackageVersion: revM, Jun-2011; PackageReference: D8; PackageDescription: 8-Pin Plastic Small Outline Integrated Circuit, 4.9 x 3.9 mm, Pitch 1.27 mm Pitch; Supplier 1: Digi-Key; Supplier Part Number 1: TPS3705-50DG4-ND; Supplier 2: Newark; Supplier Part Number 2: 61K1888; Supplier 3: Mouser; Supplier Part Number 3: 595-TPS3705-50DG4; Reset Threshold Accuracy(%): 2; VCC(Min)(V): 2; Mounting Technology: Surface Mount; Code_JEDEC: MS-012AA; ComponentLink1Description: Datasheet; ComponentLink1URL: http://www.ti.com/general/docs/lit/getliterature.tsp?genericPartNumber=TPS3705-50&fileType=pdf
footprint D8_N (SOIC, 8-Leads, Body 4.9x3.9mm, Pitch 1.27mm, IPC Medium Density)
footprint D8_L (SOIC, 8-Leads, Body 4.9x3.9mm, Pitch 1.27mm, IPC High Density)
footprint D8_M (SOIC, 8-Leads, Body 4.9x3.9mm, Pitch 1.27mm, IPC Low Density)
pins: 1 ~{MR} (in) "Manual reset", 2 VDD (power) "Supply voltage", 3 GND (power) "Ground", 4 PFI (in) "Power-fail comparator input", 5 ~{PFO} (out) "Power-fail comparator output", 6 WDI (in) "Watchdog timer input", 7 ~{RESET} (out) "Active-low reset output", 8 ~{WDO} (out) "Watchdog timer output"

## TPS3705-50DGN
designator U?
Processor Supervisory Circuit with Power-Fail, 2 Supply Monitored, -40 to 85 degC, 8-pin MSOP-PowerPAD (DGN), Green (RoHS & no Sb/Br); Manufacturer: Texas Instruments; PartNumber: TPS3705-50DGN; # of supplies monitored: 2; Iq(Typ)(uA): 30; Output Driver Type / Reset Output: Active-low, Push-pull; Rating: Catalog; SubFamily: Supervisor and Reset IC; Threshold Voltage 1 (typ)(Typ)(V): 4.55; Threshold Voltage 2 (typ)(Typ)(V): Adjustable; Time Delay(ms): 200; VCC(Max)(V): 5; Watchdog Timer WDI(sec): 1.6; DatasheetVersion: SLVS184C; PackageVersion: revF, May-2011; PackageReference: DGN8-1760X1425TP; PackageDescription: 8-Pin PowerPAD Plastic Small Outline Package 3 x 3 mm Body ,0.65 mm Pitch, Exposed Pad; Supplier 1: Digi-Key; Supplier Part Number 1: TPS3705-50DGN-ND; Supplier 2: Newark; Supplier Part Number 2: 77C0368; Supplier 3: Mouser; Supplier Part Number 3: 595-TPS3705-50DGN; Reset Threshold Accuracy(%): 2; VCC(Min)(V): 2; Mounting Technology: Surface Mount; Code_JEDEC: MO-187-AA-T; ComponentLink1Description: Datasheet; ComponentLink1URL: http://www.ti.com/general/docs/lit/getliterature.tsp?genericPartNumber=TPS3705-50&fileType=pdf
footprint DGN8-1760X1425TP_N (TSOP, 8-Leads, Body 3x3mm, Pitch 0.65mm, Thermal Pad 1.89x1.57mm, IPC Medium Density)
footprint DGN8-1760X1425TP_L (TSOP, 8-Leads, Body 3x3mm, Pitch 0.65mm, Thermal Pad 1.89x1.57mm, IPC High Density)
footprint DGN8-1760X1425TP_M (TSOP, 8-Leads, Body 3x3mm, Pitch 0.65mm, Thermal Pad 1.89x1.57mm, IPC Low Density)
pins: 1 ~{RESET} (out) "Active-low reset output", 2 ~{WDO} (out) "Watchdog timer output", 3 ~{MR} (in) "Manual reset", 4 VDD (power) "Supply voltage", 5 GND (power) "Ground", 6 PFI (in) "Power-fail comparator input", 7 ~{PFO} (out) "Power-fail comparator output", 8 WDI (in) "Watchdog timer input", 9 EP "Thermal Pad"

## TPS3705-50DGNG4
designator U?
Processor Supervisory Circuit with Power-Fail, 2 Supply Monitored, -40 to 85 degC, 8-pin MSOP-PowerPAD (DGN), Green (RoHS & no Sb/Br); Manufacturer: Texas Instruments; PartNumber: TPS3705-50DGNG4; # of supplies monitored: 2; Iq(Typ)(uA): 30; Output Driver Type / Reset Output: Active-low, Push-pull; Rating: Catalog; SubFamily: Supervisor and Reset IC; Threshold Voltage 1 (typ)(Typ)(V): 4.55; Threshold Voltage 2 (typ)(Typ)(V): Adjustable; Time Delay(ms): 200; VCC(Max)(V): 5; Watchdog Timer WDI(sec): 1.6; DatasheetVersion: SLVS184C; PackageVersion: revF, May-2011; PackageReference: DGN8-1760X1425TP; PackageDescription: 8-Pin PowerPAD Plastic Small Outline Package 3 x 3 mm Body ,0.65 mm Pitch, Exposed Pad; Supplier 1: Digi-Key; Supplier Part Number 1: TPS3705-50DGNG4-ND; Supplier 2: Newark; Supplier Part Number 2: 58K6925; Supplier 3: Mouser; Supplier Part Number 3: 595-TPS3705-50DGNG4; Reset Threshold Accuracy(%): 2; VCC(Min)(V): 2; Mounting Technology: Surface Mount; Code_JEDEC: MO-187-AA-T; ComponentLink1Description: Datasheet; ComponentLink1URL: http://www.ti.com/general/docs/lit/getliterature.tsp?genericPartNumber=TPS3705-50&fileType=pdf
footprint DGN8-1760X1425TP_N (TSOP, 8-Leads, Body 3x3mm, Pitch 0.65mm, Thermal Pad 1.89x1.57mm, IPC Medium Density)
footprint DGN8-1760X1425TP_L (TSOP, 8-Leads, Body 3x3mm, Pitch 0.65mm, Thermal Pad 1.89x1.57mm, IPC High Density)
footprint DGN8-1760X1425TP_M (TSOP, 8-Leads, Body 3x3mm, Pitch 0.65mm, Thermal Pad 1.89x1.57mm, IPC Low Density)
pins: 1 ~{RESET} (out) "Active-low reset output", 2 ~{WDO} (out) "Watchdog timer output", 3 ~{MR} (in) "Manual reset", 4 VDD (power) "Supply voltage", 5 GND (power) "Ground", 6 PFI (in) "Power-fail comparator input", 7 ~{PFO} (out) "Power-fail comparator output", 8 WDI (in) "Watchdog timer input", 9 EP "Thermal Pad"

## TPS3705-50DGNR
designator U?
Processor Supervisory Circuit with Power-Fail, 2 Supply Monitored, -40 to 85 degC, 8-pin MSOP-PowerPAD (DGN), Green (RoHS & no Sb/Br); Manufacturer: Texas Instruments; PartNumber: TPS3705-50DGNR; # of supplies monitored: 2; Iq(Typ)(uA): 30; Output Driver Type / Reset Output: Active-low, Push-pull; Rating: Catalog; SubFamily: Supervisor and Reset IC; Threshold Voltage 1 (typ)(Typ)(V): 4.55; Threshold Voltage 2 (typ)(Typ)(V): Adjustable; Time Delay(ms): 200; VCC(Max)(V): 5; Watchdog Timer WDI(sec): 1.6; DatasheetVersion: SLVS184C; PackageVersion: revF, May-2011; PackageReference: DGN8-1760X1425TP; PackageDescription: 8-Pin PowerPAD Plastic Small Outline Package 3 x 3 mm Body ,0.65 mm Pitch, Exposed Pad; Supplier 1: Digi-Key; Supplier Part Number 1: 296-3320-2-ND; Supplier 2: Digi-Key; Supplier Part Number 2: 296-3320-1-ND; Supplier 3: Digi-Key; Supplier Part Number 3: 296-3320-6-ND; Supplier 4: Newark; Supplier Part Number 4: 77C0369; Supplier 5: Mouser; Supplier Part Number 5: 595-TPS3705-50DGNR; Reset Threshold Accuracy(%): 2; VCC(Min)(V): 2; Mounting Technology: Surface Mount; Code_JEDEC: MO-187-AA-T; ComponentLink1Description: Datasheet; ComponentLink1URL: http://www.ti.com/general/docs/lit/getliterature.tsp?genericPartNumber=TPS3705-50&fileType=pdf
footprint DGN8-1760X1425TP_N (TSOP, 8-Leads, Body 3x3mm, Pitch 0.65mm, Thermal Pad 1.89x1.57mm, IPC Medium Density)
footprint DGN8-1760X1425TP_L (TSOP, 8-Leads, Body 3x3mm, Pitch 0.65mm, Thermal Pad 1.89x1.57mm, IPC High Density)
footprint DGN8-1760X1425TP_M (TSOP, 8-Leads, Body 3x3mm, Pitch 0.65mm, Thermal Pad 1.89x1.57mm, IPC Low Density)
pins: 1 ~{RESET} (out) "Active-low reset output", 2 ~{WDO} (out) "Watchdog timer output", 3 ~{MR} (in) "Manual reset", 4 VDD (power) "Supply voltage", 5 GND (power) "Ground", 6 PFI (in) "Power-fail comparator input", 7 ~{PFO} (out) "Power-fail comparator output", 8 WDI (in) "Watchdog timer input", 9 EP "Thermal Pad"